# EAGLE library part PINHD-2X6/SMD (library headers)
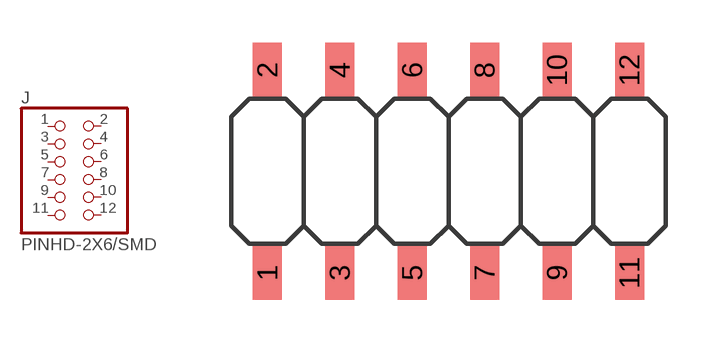
[diagram p14: symbol with the pads of 2X6/SMD; footprint 2X6/SMD]

Designator prefix J

## PINHD-2X6/SMD  [2X6/SMD]
1  1  pas
2  2  pas
3  3  pas
4  4  pas
5  5  pas
6  6  pas
7  7  pas
8  8  pas
9  9  pas
10  10  pas
11  11  pas
12  12  pas

## Footprint 2X6/SMD (pad centres in mm)
smd 1.016 x 1.905: 1 -6.35,-3.556; 2 -6.35,3.556; 3 -3.81,-3.556; 4 -3.81,3.556; 5 -1.27,-3.556; 6 -1.27,3.556; 7 1.27,-3.556; 8 1.27,3.556; 9 3.81,-3.556; 10 3.81,3.556; 11 6.35,-3.556; 12 6.35,3.556